# Altium schematic symbol library MMSZ5233BS.Schlib: 1 symbol
Pins are listed as number, name and electrical type; pins without a type are passive.

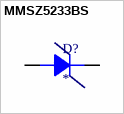
[diagram p0: symbol MMSZ5233BS]

## MMSZ5233BS
designator D?
6V SOD323 Zener Diode
pins: 1 K, 2 A